# Altium integrated library COM-16347.IntLib: 2 symbols
Pins are listed as number, name and electrical type; pins without a type are passive.

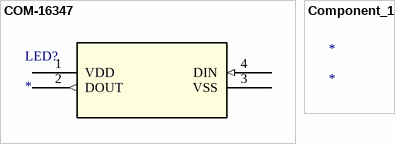
[diagram p0: symbols COM-16347 to Component_1]

## COM-16347
designator LED?
No Description Available; Mfr_Name: Sparkfun; Type: LED Addressable; RefDes: RefDes
footprint COM-16347_SPK
pins: 1 VDD (power), 2 DOUT (out), 3 VSS (power), 4 DIN (in)

## Component_1
designator *